# Altium integrated library TG21_Slave_Device_Amply_V1.2.IntLib: 30 symbols
Pins are listed as number, name and electrical type; pins without a type are passive.

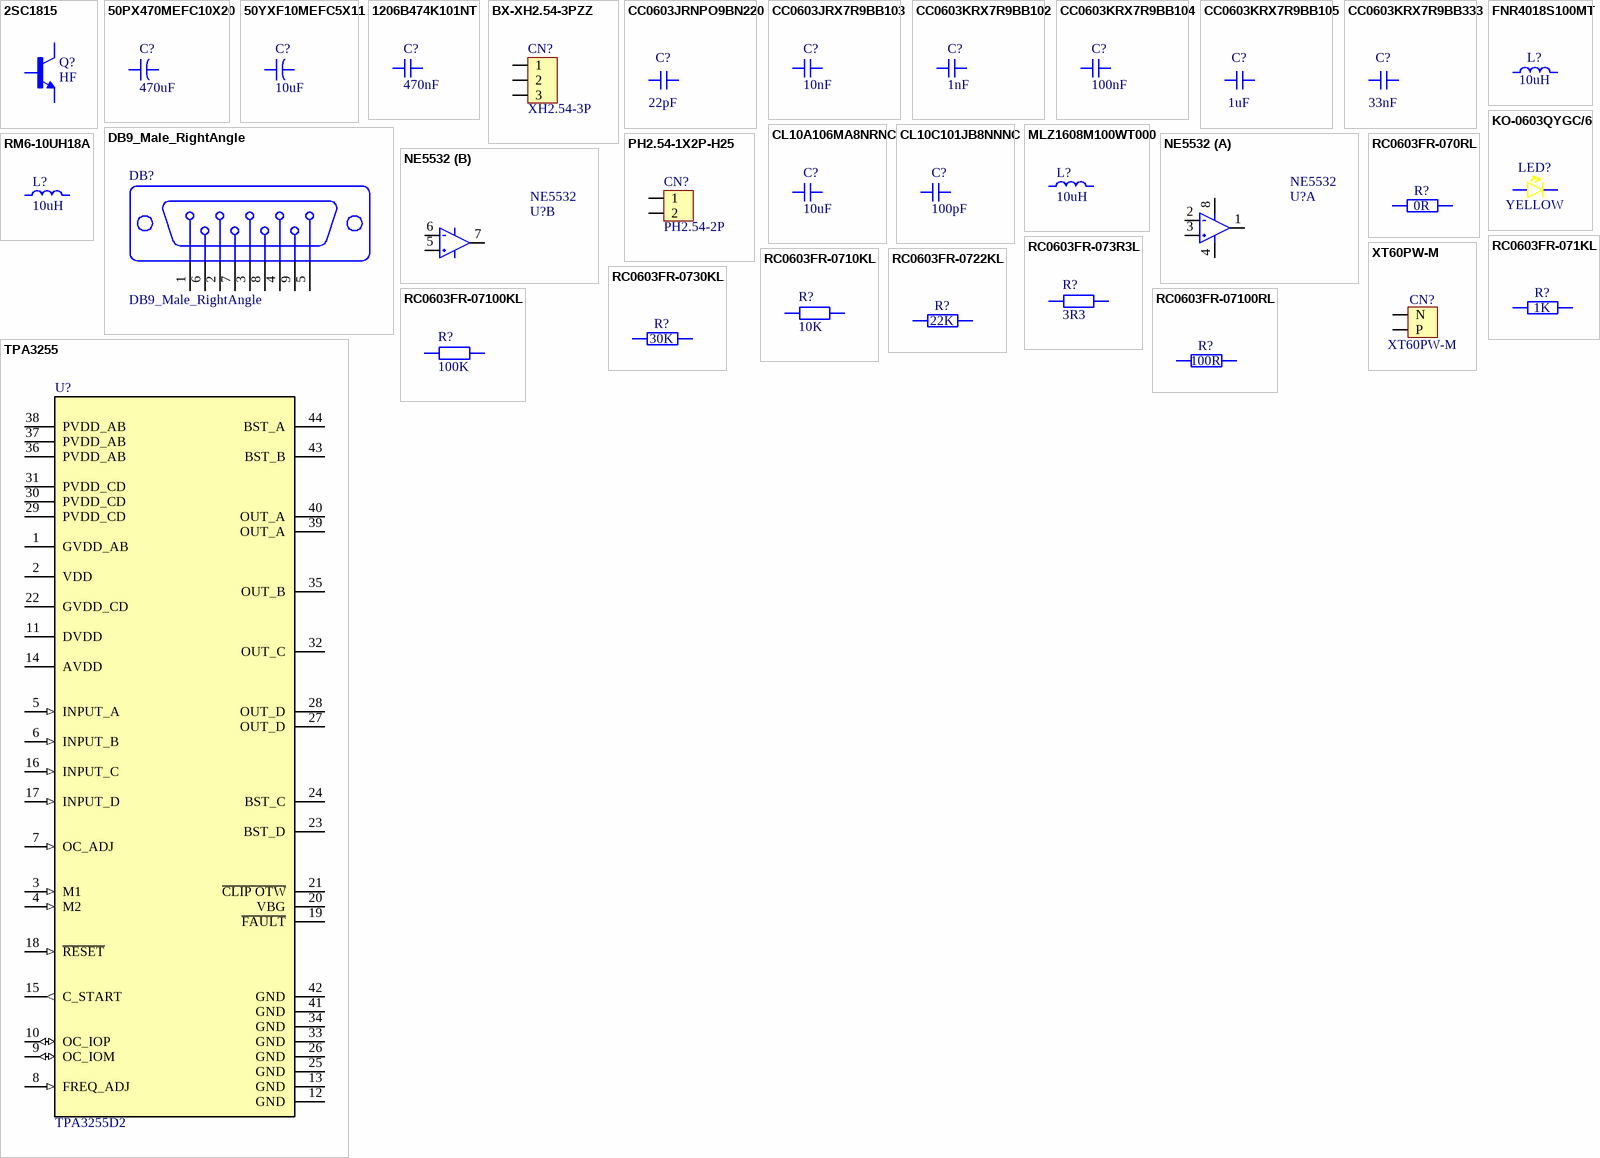
[diagram p0: symbols 2SC1815 to XT60PW-M]

## 2SC1815
designator Q?, comment HF
Bipolar (BJT) Transistor NPN 50V 0.15A 80MHz 200mW Surface Mount SOT-23; Manufacturer: R+O; Mfr.Part #: 2SC1815; LCSC Part #: C20069143; Package: SOT-23; DigiKey Part Number: NO; ComponentLink1Description: Link; ComponentLink1URL: https://www.lcsc.com/product-detail/C20069143.html?s_z=n_2SC1815
footprint SOT-23
pins: 1 B, 2 E, 3 C

## 50PX470MEFC10X20
designator C?, comment 470uF
470uF 50V Aluminum Electrolytic Capacitors Through Hole,D10xL20mm 2000hrs@105℃; Manufacturer: Rubycon; Mfr.Part #: 50PX470MEFC10X20; LCSC Part #: C88733; Package: Through Hole,D10xL20mm; DigiKey Part Number: 1189-4213-ND; ComponentLink1Description: Link; ComponentLink1URL: https://www.lcsc.com/product-detail/C88733.html; ComponentLink2Description: Link 1; ComponentLink2URL: https://www.digikey.com/en/products/detail/rubycon/50PX470MEFC10X20/3563766?s=N4IgTCBcDaIKwAYAKANALAdgQWQKIDEBhARgRTARAF0BfIA
footprint Plugin,D10xL20mm
pins: 1, 2

## 50YXF10MEFC5X11
designator C?, comment 10uF
10uF 50V Aluminum Electrolytic Capacitors Through Hole,D5xL11mm 5000hrs@105℃; Manufacturer: Rubycon; Mfr.Part #: 50YXF10MEFC5X11; Package: Through Hole,D5xL11mm; LCSC Part #: C88726; DigiKey Part Number: 1189-1852-ND; ComponentLink1Description: Link; ComponentLink1URL: https://www.lcsc.com/product-detail/C88726.html; ComponentLink2Description: Link 1; ComponentLink2URL: http://digikey.com/en/products/detail/rubycon/50YXF10MEFC5X11/3562878?s=N4IgTCBcDaIKwAYCaANAYgRgQWQKJoGE4UMMQBdAXyA
footprint PLUGIN,D5xL11mm
pins: 1, 2

## 1206B474K101NT
designator C?, comment 470nF
470nF ±10% 100V Ceramic Capacitor X7R 1206; Manufacturer: FH; Mfr.Part #: 1206B474K101NT; Package: 1206; LCSC Part #: C507059; DigiKey Part Number: NO; ComponentLink1Description: Link; ComponentLink1URL: https://www.lcsc.com/product-detail/C507059.html; ComponentLink2Description: Link 1
footprint CAP-1206 - 1
pins: 1, 2

## BX-XH2.54-3PZZ
designator CN?, comment XH2.54-3P
Connector Header 3 position 2.5mm Pitch 3A Through Hole -25℃~+85℃; Manufacturer: Bossie; Mfr.Part #: BX-XH2.54-3PZZ; LCSC Part #: C18077834; Package: Through Hole,P=2.5mm; DigiKey Part Number: NO; ComponentLink1Description: Link; ComponentLink1URL: https://www.lcsc.com/product-detail/C18077834.html?s_z=n_BX-XH2.54-3PZZ
footprint Plugin,P=2.54mm,3P
pins: 1, 2, 3

## CC0603JRNPO9BN220
designator C?, comment 22pF
22pF ±5% 50V Ceramic Capacitor NP0 0603; Manufacturer: YAGEO; Mfr.Part #: CC0603JRNPO9BN220; Package: 0603; LCSC Part #: C105620; DigiKey Part Number: 311-1062-2-ND; ComponentLink1Description: Link; ComponentLink1URL: https://www.lcsc.com/product-detail/C105620.html?s_z=n_CC0603JRNPO9BN220; ComponentLink2Description: Link 1; ComponentLink2URL: https://www.digikey.com/en/products/detail/yageo/CC0603JRNPO9BN220/302796?s=N4IgTCBcDaIMJwAwDZEGYBSAlAcgBQHkBOAIRzDERAF0BfIA
footprint CAP-0603
pins: 1, 2

## CC0603JRX7R9BB103
designator C?, comment 10nF
10nF ±5% 50V Ceramic Capacitor X7R 0603; Manufacturer: YAGEO; Mfr.Part #: CC0603JRX7R9BB103; Package: 0603; LCSC Part #: C115056; DigiKey Part Number: 311-1778-2-ND; ComponentLink1Description: Link; ComponentLink1URL: https://www.lcsc.com/product-detail/C115056.html?s_z=n_C115056; ComponentLink2Description: Link 1; ComponentLink2URL: https://www.digikey.com/en/products/detail/yageo/CC0603JRX7R9BB103/5195187?s=N4IgTCBcDaIMJwAwDZEGYBSAlAGgdiwE4AhYgRnRAF0BfIA
footprint CAP-0603
pins: 1, 2

## CC0603KRX7R9BB102
designator C?, comment 1nF
1nF ±10% 50V Ceramic Capacitor X7R 0603; Manufacturer: YAGEO; Mfr.Part #: CC0603KRX7R9BB102; Package: 0603; LCSC Part #: C100040; DigiKey Part Number: 311-1080-2-ND; ComponentLink1Description: Link; ComponentLink1URL: https://www.lcsc.com/product-detail/C100040.html?s_z=n_C100040; ComponentLink2Description: Link 1; ComponentLink2URL: https://www.digikey.com/en/products/detail/yageo/CC0603KRX7R9BB102/302814?s=N4IgTCBcDaIMJwAwDZEGYDSAlAGgdiwE4AhYgRkQgF0BfIA
footprint CAP-0603
pins: 1, 2

## CC0603KRX7R9BB104
designator C?, comment 100nF
100nF ±10% 50V Ceramic Capacitor X7R 0603; Manufacturer: YAGEO; Mfr.Part #: CC0603KRX7R9BB104; Package: 0603; LCSC Part #: C14663; DigiKey Part Number: 311-1344-2-ND; ComponentLink1Description: Link; ComponentLink1URL: https://www.lcsc.com/product-detail/C14663.html?s_z=n_C14663; ComponentLink2Description: Link 1; ComponentLink2URL: https://www.digikey.com/en/products/detail/yageo/CC0603KRX7R9BB104/2103082?s=N4IgTCBcDaIMwEYEFoFwCzuWZA5AIiALoC%2BQA
footprint CAP-0603
pins: 1, 2

## CC0603KRX7R9BB105
designator C?, comment 1uF
1uF ±10% 50V Ceramic Capacitor X7R 0603; Manufacturer: YAGEO; Mfr.Part #: CC0603KRX7R9BB105; Package: 0603; LCSC Part #: C559769; DigiKey Part Number: 311-2082-2-ND; ComponentLink1Description: Link; ComponentLink1URL: https://www.lcsc.com/product-detail/C559769.html?s_z=n_CC0603KRX7R9BB105; ComponentLink2Description: Link 1; ComponentLink2URL: https://www.digikey.com/en/products/detail/yageo/CC0603KRX7R9BB105/5883796?s=N4IgTCBcDaIMJwAwDZEGYDSAlAGgdiwE4AhYgRkQFYQBdAXyA
footprint CAP-0603
pins: 1, 2

## CC0603KRX7R9BB333
designator C?, comment 33nF
33nF ±10% 50V Ceramic Capacitor X7R 0603; Manufacturer: YAGEO; Mfr.Part #: CC0603KRX7R9BB333; Package: 0603; LCSC Part #: C106856; DigiKey Part Number: 311-1429-2-ND; ComponentLink1Description: Link; ComponentLink1URL: https://www.lcsc.com/product-detail/C106856.html?s_z=n_CC0603KRX7R9BB333; ComponentLink2Description: Link 1; ComponentLink2URL: https://www.digikey.com/en/products/detail/yageo/CC0603KRX7R9BB333/2833594?s=N4IgTCBcDaIMJwAwDZEGYDSAlAGgdiwE4AhYtckAXQF8g
footprint CAP-0603
pins: 1, 2

## CL10A106MA8NRNC
designator C?, comment 10uF
10uF ±20% 25V Ceramic Capacitor X5R 0603; Manufacturer: Samsung Electro-Mechanics; Mfr.Part #: CL10A106MA8NRNC; Package: 0603; LCSC Part #: C96446; DigiKey Part Number: 1276-1869-2-ND; ComponentLink1Description: Link; ComponentLink1URL: https://www.lcsc.com/product-detail/C96446.html?s_z=n_CL10A106MA8NRNC; ComponentLink2Description: Link 1; ComponentLink2URL: https://www.digikey.com/en/products/detail/samsung-electro-mechanics/CL10A106MA8NRNC/3887527?s=N4IgTCBcDaIMIBkCMAGAgqgbAWTQDgDkAlAuEAXQF8g
footprint CAP-0603
pins: 1, 2

## CL10C101JB8NNNC
designator C?, comment 100pF
100pF ±5% 50V Ceramic Capacitor C0G 0603; Manufacturer: Samsung Electro-Mechanics; Mfr.Part #: CL10C101JB8NNNC; Package: 0603; LCSC Part #: C14858; DigiKey Part Number: 1276-1008-2-ND; ComponentLink1Description: Link; ComponentLink1URL: https://www.lcsc.com/product-detail/C14858.html?s_z=n_CL10C101JBNNNC; ComponentLink2Description: Link 1; ComponentLink2URL: https://www.digikey.com/en/products/detail/samsung-electro-mechanics/CL10C101JB8NNNC/3886666?s=N4IgTCBcDaIMIBkCMAGOqkCkBCAOAcoXCALoC%2BQA
footprint CAP-0603
pins: 1, 2

## DB9_Male_RightAngle
designator DB?
footprint DB9-F+M
footprint D-Sub, 9P,Push-Pull,Female
footprint D-Sub, 9P, Through Hole,Right Angle
pins: 1, 2, 3, 4, 5, 6, 7, 8, 9

## FNR4018S100MT
designator L?, comment 10uH
1.2A 10uH Magnetic Shielded Inductor ±20% 1.6A 234mΩ SMD,4x4mm Fixed Inductors RoHS; Manufacturer: cjiang; Mfr.Part #: FNR4018S100MT; Package: SMD,4x4mm; LCSC Part #: C167808; DigiKey Part Number: NO
footprint SMD,4x4x1.8mm(4018)
pins: 1, 2

## KO-0603QYGC/6
designator LED?, comment YELLOW
0603 YELLOW; Manufacturer: NO; Mfr.Part #: KO-0603QYGC/6; Package: 0603; LCSC Part #: NO; DigiKey Part Number: NO; ComponentLink1Description: Link; ComponentLink2Description: Link 1
footprint LED-0603
pins: 1 A, 2 K

## MLZ1608M100WT000
designator L?, comment 10uH
250mA 10uH 90mA 1.05Ω Multilayer inductor ±20% 0603 Fixed Inductors RoHS; Manufacturer: TDK; Mfr.Part #: MLZ1608M100WT000; LCSC Part #: C76798; Package: 0603; DigiKey Part Number: 445-6389-2-ND; ComponentLink1Description: Link; ComponentLink1URL: https://www.lcsc.com/product-detail/C76798.html; ComponentLink2Description: Link 1; ComponentLink2URL: https://www.digikey.com/en/products/detail/tdk/MLZ1608M100WT000/2465148?s=N4IgTCBcDaILIBkBaBGAbABgBxxRjA6gCr4YgC6AvkA
footprint CAP-0603
pins: 1, 2

## NE5532
designator U?
footprint SOP8_L (SOIC, 8-Leads, Body 4.9x3.9mm, Pitch 1.27mm, IPC High Density)
footprint SOIC-8
part A pins: 1 Out1, 2 IN1-, 3 IN1+, 4 GND, 8 VCC
part B pins: 5 IN2+, 6 IN2-, 7 Out2

## PH2.54-1X2P-H25
designator CN?, comment PH2.54-2P
Pin Header 2 Position 2.54mm Pitch Single Row Through Hole -40℃~+105℃; Manufacturer: JXTCONN; Mfr.Part #: PH2.54-1X2P-H25; LCSC Part #: C42431798; Package: Through Hole,P=2.54mm; DigiKey Part Number: NO; ComponentLink1Description: Link; ComponentLink1URL: https://www.lcsc.com/product-detail/C42431798.html?s_z=n_2.54-1%2a2P
footprint Plugin,P=2.54mm,2P,Pin Headers
pins: 1, 2

## RC0603FR-070RL
designator R?, comment 0R
0Ω 100mW 75V Thick Film Resistor ±1% 0603 Chip Resistor - Surface Mount RoHS; Mfr.Part #: RC0603FR-070RL; Manufacturer: YAGEO; Package: 0603; LCSC Part #: C100044; DigiKey Part Number: 311-0.0HRTR-ND; ComponentLink1Description: Link; ComponentLink1URL: https://www.lcsc.com/product-detail/C100044.html?s_z=n_0R; ComponentLink2Description: Link 1; ComponentLink2URL: https://www.digikey.com/en/products/detail/yageo/RC0603FR-070RL/1304008?s=N4IgTCBcDaIEoGEAMA2JBmAYnAtEg7EnADIgC6AvkA
footprint RES-0603
pins: 1, 2

## RC0603FR-071KL
designator R?, comment 1K
100mW 1kΩ 75V Thick Film Resistor ±100ppm/℃ ±1% 0603 Chip Resistor - Surface Mount RoHS; Manufacturer: YAGEO; Mfr.Part #: RC0603FR-071KL; Package: 0603; LCSC Part #: C22548; DigiKey Part Number: 311-1.00KHRTR-ND; ComponentLink1Description: Link; ComponentLink1URL: https://www.lcsc.com/product-detail/C22548.html?s_z=n_C22548; ComponentLink2Description: Link 1; ComponentLink2URL: https://www.digikey.com/en/products/detail/yageo/RC0603FR-071KL/726843?s=N4IgTCBcDaIEoGEAMA2JBmAYnAtEg7AIwDSAMiALoC%2BQA
footprint RES-0603
pins: 1, 2

## RC0603FR-073R3L
designator R?, comment 3R3
100mW 3.3Ω 75V Thick Film Resistor ±1% ±200ppm/℃ 0603 Chip Resistor - Surface Mount RoHS; Manufacturer: YAGEO; Mfr.Part #: RC0603FR-073R3L; Package: 0603; LCSC Part #: C137725; DigiKey Part Number: 13-RC0603FR-073R3LTR-ND; ComponentLink1Description: Link; ComponentLink1URL: https://www.lcsc.com/product-detail/C137725.html?s_z=n_RC0603FR-073R3L; ComponentLink2Description: Link 1; ComponentLink2URL: https://www.digikey.com/en/products/detail/yageo/RC0603FR-073R3L/5918348?s=N4IgTCBcDaIEoGEAMA2JBmAYnAtEg7OnOgDIgC6AvkA
footprint RES-0603
pins: 1, 2

## RC0603FR-0710KL
designator R?, comment 10K
100mW 10kΩ 75V Thick Film Resistor ±100ppm/℃ ±1% 0603 Chip Resistor - Surface Mount RoHS; Manufacturer: YAGEO; Mfr.Part #: RC0603FR-0710KL; Package: 0603; LCSC Part #: C98220; DigiKey Part Number: 311-10.0KHRTR-ND; ComponentLink1Description: Link; ComponentLink1URL: https://www.lcsc.com/product-detail/C98220.html?s_z=n_C98220; ComponentLink2Description: Link 1; ComponentLink2URL: https://www.digikey.com/en/products/detail/yageo/RC0603FR-0710KL/726880?s=N4IgTCBcDaIMwEYEFoEAYB0aDSAJASgCr7IByAIiALoC%2BQA
footprint RES-0603
pins: 1, 2

## RC0603FR-0722KL
designator R?, comment 22K
100mW 22kΩ 75V Thick Film Resistor ±100ppm/℃ ±1% 0603 Chip Resistor - Surface Mount RoHS; Manufacturer: YAGEO; Mfr.Part #: RC0603FR-0722KL; Package: 0603; LCSC Part #: C114065; DigiKey Part Number: 311-22.0KHRTR-ND; ComponentLink1Description: Link; ComponentLink1URL: https://www.lcsc.com/product-detail/C114065.html?s_z=n_22K; ComponentLink2Description: Link 1; ComponentLink2URL: https://www.digikey.com/en/products/detail/yageo/RC0603FR-0722KL/727056?s=N4IgTCBcDaIEoGEAMA2JBmAYnAtEg7GGANIAyIAugL5A
footprint RES-0603
pins: 1, 2

## RC0603FR-0730KL
designator R?, comment 30K
100mW 30kΩ 75V Thick Film Resistor ±100ppm/℃ ±1% 0603 Chip Resistor - Surface Mount RoHS; Manufacturer: YAGEO; Mfr.Part #: RC0603FR-0730KL; Package: 0603; LCSC Part #: C100001; DigiKey Part Number: 311-30.0KHRTR-ND; ComponentLink1Description: Link; ComponentLink1URL: https://www.lcsc.com/product-detail/C100001.html?s_z=n_30K; ComponentLink2Description: Link 1; ComponentLink2URL: https://www.digikey.com/en/products/detail/yageo/RC0603FR-0730KL/727140?s=N4IgTCBcDaIEoGEAMA2JBmAYnAtEg7OkgNIAyIAugL5A
footprint RES-0603
pins: 1, 2

## RC0603FR-07100KL
designator R?, comment 100K
100mW 100kΩ 75V Thick Film Resistor ±100ppm/℃ ±1% 0603 Chip Resistor - Surface Mount RoHS; Manufacturer: YAGEO; Mfr.Part #: RC0603FR-07100KL; Package: 0603; LCSC Part #: C14675; DigiKey Part Number: 311-100KHRTR-ND; ComponentLink1Description: Link; ComponentLink1URL: https://www.lcsc.com/product-detail/C14675.html?s_z=n_RC0603FR-07100KL; ComponentLink2Description: Link 1; ComponentLink2URL: https://www.digikey.com/en/products/detail/yageo/RC0603FR-07100KL/726889?s=N4IgTCBcDaIEoGEAMA2JBmAYnAtEg7AIxJIDSAMiALoC%2BQA
footprint RES-0603
pins: 1, 2

## RC0603FR-07100RL
designator R?, comment 100R
100mW 100Ω 75V Thick Film Resistor ±100ppm/℃ ±1% 0603 Chip Resistor - Surface Mount RoHS; Manufacturer: YAGEO; Mfr.Part #: RC0603FR-07100KL; Package: 0603; LCSC Part #: C105588; DigiKey Part Number: 311-100HRTR-ND; ComponentLink1Description: Link; ComponentLink1URL: https://www.lcsc.com/product-detail/C105588.html?s_z=n_RC0603FR-07100RL; ComponentLink2Description: Link 1; ComponentLink2URL: https://www.digikey.com/en/products/detail/yageo/RC0603FR-07100RL/726888?s=N4IgTCBcDaIEoGEAMA2JBmAYnAtEg7AIxJJwAyIAugL5A
footprint RES-0603
pins: 1, 2

## RM6-10UH18A
designator L?, comment 10uH
10uH SMD, 21.5x22.5mm, 5mΩ, Isat 12A; Manufacturer: NO; Mfr.Part #: MTP2012S-100MC; DigiKey Part Number: NO; LCSC Part #: NO; Package: Through Hole,19x13mm; ComponentLink1Description: Link; ComponentLink1URL: https://detail.tmall.com/item.htm?abbucket=13&id=830337168403&mi_id=0000HfZtw201IDY-IbBo5SBGln4Rs-xlnrA7bLsp8-ByO4c&ns=1&priceTId=2100cff517743435818743772e0cc2&skuId=5563931960630&spm=a21n57.1.hoverItem.11&utparam=%7B%22aplus_abtest%22%3A%2250db852e2facc06d265983063d788b35%22%7D&xxc=taobaoSearch; ComponentLink2Description: Link 1
footprint RM6
pins: 1, 2

## TPA3255
designator U?, comment TPA3255D2
footprint TPA3255
footprint HTSSOP-32-EP-6.1mm-TPA3116D2
footprint HTSSOP-44-6.1mm-TPA3255
pins: 1 GVDD_AB (power), 2 VDD (power), 3 M1 (in), 4 M2 (in), 5 INPUT_A (in), 6 INPUT_B (in), 7 OC_ADJ (in), 8 FREQ_ADJ (in), 9 OC_IOM (io), 10 OC_IOP (io), 11 DVDD (power), 12 GND (power), 13 GND (power), 14 AVDD (power), 15 C_START (out), 16 INPUT_C (in), 17 INPUT_D (in), 18 ~{RESET} (in), 19 ~{FAULT} (oc), 20 VBG, 21 ~{CLIP OTW} (oc), 22 GVDD_CD (power), 23 BST_D (power), 24 BST_C (power), 25 GND (power), 26 GND (power), 27 OUT_D (power), 28 OUT_D (power), 29 PVDD_CD (power), 30 PVDD_CD (power), 31 PVDD_CD (power), 32 OUT_C (power), 33 GND (power), 34 GND (power), 35 OUT_B (power), 36 PVDD_AB (power), 37 PVDD_AB (power), 38 PVDD_AB (power), 39 OUT_A (power), 40 OUT_A (power), 41 GND (power), 42 GND (power), 43 BST_B (power), 44 BST_A (power)

## XT60PW-M
designator CN?
Banana and Tip Connector Adapters RoHS; Manufacturer: Changzhou Amass Elec; Mfr.Part #: XT60PW-M; LCSC Part #: C98732; Package: XT60PW-M; DigiKey Part Number: NO; ComponentLink1Description: Link; ComponentLink1URL: https://www.lcsc.com/product-detail/C98732.html?s_z=n_XT60
footprint XT60PW-M
pins: 1 P, 2 N